# EAGLE library part AS72651 (library Qwiic_Spectral_Sensor-AS7265x)
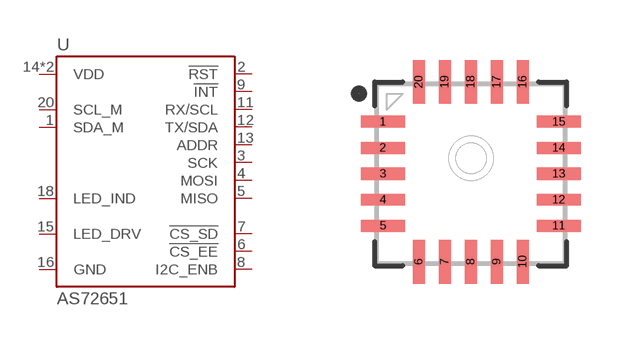
[diagram p0: symbol with the pads of LGA20; footprint LGA20]

Designator prefix U

## AS72651 (PROD_ID: IC-14127)  [LGA20]
1  SDA_M
2  !RST
3  SCK
4  MOSI
5  MISO
6  !CS_EE
7  !CS_SD
8  I2C_ENB
9  !INT
11  RX/SCL
12  TX/SDA
13  ADDR
14  VDD
15  LED_DRV
16  GND
17  VDD
18  LED_IND
20  SCL_M

## Footprint LGA20 (pad centres in mm)
smd 1.1 x 0.3: 1 -2.2,1.3; 2 -2.2,0.65; 3 -2.2,0; 4 -2.2,-0.65; 5 -2.2,-1.3; 11 2.2,-1.3; 12 2.2,-0.65; 13 2.2,0; 14 2.2,0.65; 15 2.2,1.3
smd 0.3 x 1.1: 6 -1.3,-2.2; 7 -0.65,-2.2; 8 0,-2.2; 9 0.65,-2.2; 10 1.3,-2.2; 16 1.3,2.3; 17 0.65,2.3; 18 0,2.3; 19 -0.65,2.3; 20 -1.3,2.3